# Altium footprint library ftdichip.PCBLIB: 6 footprints
Each footprint in its own frame and in the unit in brackets; x right, y up, seen from the top. Pads: shape width x height; smd on the part's side, far side on the other; paste and mask are expansions set on the pad; w line width, h text height; cw(c..) or ccw(c..) is an arc to the next point about the centre after c.
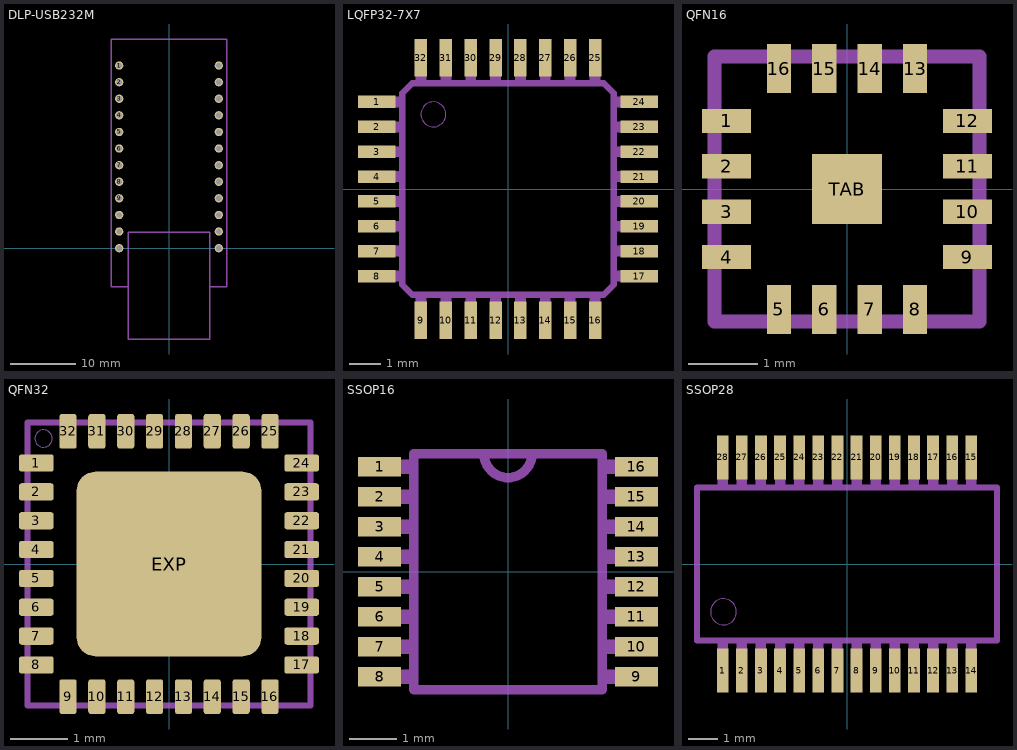
[diagram p0: the footprints below, top view; thin cyan lines are the x and y axes]

## DLP-USB232M [mil]
pads (24):
  round 50 hole 31.5: 1(-300,1100) 2(-300,1000) 3(-300,900) 4(-300,800) 5(-300,700) 6(-300,600) 7(-300,500) 8(-300,400) 9(-300,300) 10(-300,200) 11(-300,100) 12(-300,0) 13(300,0) 14(300,100) 15(300,200) 16(300,300) 17(300,400) 18(300,500) 19(300,600) 20(300,700) 21(300,800) 22(300,900) 23(300,1000) 24(300,1100)
Mechanical 2:
  lines w8: -246.06,-232.28 -346.46,-232.28 -346.46,1259.84 346.46,1259.84 346.46,-232.28 246.06,-232.28 ; -246.06,-232.28 -246.06,94.49 246.06,94.49 246.06,-232.28 ; -246.06,-232.28 -246.06,-547.24 246.06,-547.24 246.06,-232.28

## LQFP32-7X7 [mm]
pads (32):
  rect 1.2x0.4 smd: 1(-4.225,2.8) 2(-4.225,2) 3(-4.225,1.2) 4(-4.225,0.4) 5(-4.225,-0.4) 6(-4.225,-1.2) 7(-4.225,-2) 8(-4.225,-2.8) 17(4.225,-2.8) 18(4.225,-2) 19(4.225,-1.2) 20(4.225,-0.4) 21(4.225,0.4) 22(4.225,1.2) 23(4.225,2) 24(4.225,2.8)
  rect 0.4x1.2 smd: 9(-2.8,-4.225) 10(-2,-4.225) 11(-1.2,-4.225) 12(-0.4,-4.225) 13(0.4,-4.225) 14(1.2,-4.225) 15(2,-4.225) 16(2.8,-4.225) 25(2.8,4.225) 26(2,4.225) 27(1.2,4.225) 28(0.4,4.225) 29(-0.4,4.225) 30(-1.2,4.225) 31(-2,4.225) 32(-2.8,4.225)
Mechanical 2:
  lines w0.203: -3.4,-3.083 -3.083,-3.4 3.083,-3.4 3.4,-3.083 3.4,3.083 3.083,3.4 -3.083,3.4 -3.4,3.083 -3.4,-3.083
Mechanical 18:
  circle w0: c-2.4,2.4 r0.4
  rectangle: -4.5,2.625 -3.475,2.975
  rectangle: -4.5,1.825 -3.475,2.175
  rectangle: -4.5,1.025 -3.475,1.375
  rectangle: -4.5,0.225 -3.475,0.575
  rectangle: -4.5,-0.575 -3.475,-0.225
  rectangle: -4.5,-1.375 -3.475,-1.025
  rectangle: -4.5,-2.175 -3.475,-1.825
  rectangle: -4.5,-2.975 -3.475,-2.625
  region: -2.625,-4.5 -2.625,-3.475 -2.975,-3.475 -2.975,-4.5
  region: -1.825,-4.5 -1.825,-3.475 -2.175,-3.475 -2.175,-4.5
  region: -1.025,-4.5 -1.025,-3.475 -1.375,-3.475 -1.375,-4.5
  region: -0.225,-4.5 -0.225,-3.475 -0.575,-3.475 -0.575,-4.5
  region: 0.575,-4.5 0.575,-3.475 0.225,-3.475 0.225,-4.5
  region: 1.375,-4.5 1.375,-3.475 1.025,-3.475 1.025,-4.5
  region: 2.175,-4.5 2.175,-3.475 1.825,-3.475 1.825,-4.5
  region: 2.975,-4.5 2.975,-3.475 2.625,-3.475 2.625,-4.5
  region: 4.5,-2.625 3.475,-2.625 3.475,-2.975 4.5,-2.975
  region: 4.5,-1.825 3.475,-1.825 3.475,-2.175 4.5,-2.175
  region: 4.5,-1.025 3.475,-1.025 3.475,-1.375 4.5,-1.375
  region: 4.5,-0.225 3.475,-0.225 3.475,-0.575 4.5,-0.575
  region: 4.5,0.575 3.475,0.575 3.475,0.225 4.5,0.225
  region: 4.5,1.375 3.475,1.375 3.475,1.025 4.5,1.025
  region: 4.5,2.175 3.475,2.175 3.475,1.825 4.5,1.825
  region: 4.5,2.975 3.475,2.975 3.475,2.625 4.5,2.625
  region: 2.625,4.5 2.625,3.475 2.975,3.475 2.975,4.5
  region: 1.825,4.5 1.825,3.475 2.175,3.475 2.175,4.5
  region: 1.025,4.5 1.025,3.475 1.375,3.475 1.375,4.5
  region: 0.225,4.5 0.225,3.475 0.575,3.475 0.575,4.5
  region: -0.575,4.5 -0.575,3.475 -0.225,3.475 -0.225,4.5
  region: -1.375,4.5 -1.375,3.475 -1.025,3.475 -1.025,4.5
  region: -2.175,4.5 -2.175,3.475 -1.825,3.475 -1.825,4.5
  region: -2.975,4.5 -2.975,3.475 -2.625,3.475 -2.625,4.5

## QFN16 [mm]
pads (17):
  rect 0.7x0.35 smd mask-0.35: 1(-1.725,0.975) 2(-1.725,0.325) 3(-1.725,-0.325) 4(-1.725,-0.975) 9(1.725,-0.975) 10(1.725,-0.325) 11(1.725,0.325) 12(1.725,0.975)
  rect 0.35x0.7 smd mask-0.35: 5(-0.975,-1.725) 6(-0.325,-1.725) 7(0.325,-1.725) 8(0.975,-1.725) 13(0.975,1.725) 14(0.325,1.725) 15(-0.325,1.725) 16(-0.975,1.725)
  rect 1x1 smd mask-0.5: TAB(0,0)
Top Layer:
  region: 0,0 0.254,0 0.254,0.254 0,0.254
Top Paste:
  region: 0,0 0.254,0 0.254,0.254 0,0.254
Top Solder:
  rectangle: -2.15,0.775 -1.3,1.175
  rectangle: -2.15,0.125 -1.3,0.525
  rectangle: -2.15,-0.525 -1.3,-0.125
  rectangle: -2.15,-1.175 -1.3,-0.775
  region: -0.775,-2.15 -0.775,-1.3 -1.175,-1.3 -1.175,-2.15
  region: -0.125,-2.15 -0.125,-1.3 -0.525,-1.3 -0.525,-2.15
  region: 0.525,-2.15 0.525,-1.3 0.125,-1.3 0.125,-2.15
  region: 1.175,-2.15 1.175,-1.3 0.775,-1.3 0.775,-2.15
  region: 2.15,-0.775 1.3,-0.775 1.3,-1.175 2.15,-1.175
  region: 2.15,-0.125 1.3,-0.125 1.3,-0.525 2.15,-0.525
  region: 2.15,0.525 1.3,0.525 1.3,0.125 2.15,0.125
  region: 2.15,1.175 1.3,1.175 1.3,0.775 2.15,0.775
  region: 0.775,2.15 0.775,1.3 1.175,1.3 1.175,2.15
  region: 0.125,2.15 0.125,1.3 0.525,1.3 0.525,2.15
  region: -0.525,2.15 -0.525,1.3 -0.125,1.3 -0.125,2.15
  region: -1.175,2.15 -1.175,1.3 -0.775,1.3 -0.775,2.15
  region: 0,0 0.254,0 0.254,0.254 0,0.254
Mechanical 2:
  lines w0.203: -1.9,-1.9 -1.9,1.9 1.9,1.9 1.9,-1.9 -1.9,-1.9

## QFN32 [mm]
pads (33):
  rrect30% 0.6x0.3 smd paste-0.3 mask-0.3: 1(-2.3,1.75) 2(-2.3,1.25) 3(-2.3,0.75) 4(-2.3,0.25) 5(-2.3,-0.25) 6(-2.3,-0.75) 7(-2.3,-1.25) 8(-2.3,-1.75) 17(2.3,-1.75) 18(2.3,-1.25) 19(2.3,-0.75) 20(2.3,-0.25) 21(2.3,0.25) 22(2.3,0.75) 23(2.3,1.25) 24(2.3,1.75)
  rrect30% 0.3x0.6 smd paste-0.3 mask-0.3: 9(-1.75,-2.3) 10(-1.25,-2.3) 11(-0.75,-2.3) 12(-0.25,-2.3) 13(0.25,-2.3) 14(0.75,-2.3) 15(1.25,-2.3) 16(1.75,-2.3) 25(1.75,2.3) 26(1.25,2.3) 27(0.75,2.3) 28(0.25,2.3) 29(-0.25,2.3) 30(-0.75,2.3) 31(-1.25,2.3) 32(-1.75,2.3)
  rrect20% 3.2x3.2 smd paste-1.6 mask-1.6: EXP(0,0)
Top Paste:
  rectangle: -0.3,1.1 0.3,1.4
  rectangle: -0.3,0.6 0.3,0.9
  rectangle: -0.3,0.1 0.3,0.4
  rectangle: -0.3,-0.4 0.3,-0.1
  rectangle: -0.3,-0.9 0.3,-0.6
  rectangle: -0.3,-1.4 0.3,-1.1
  rectangle: -1.3,1.1 -0.7,1.4
  rectangle: -1.3,0.6 -0.7,0.9
  rectangle: -1.3,0.1 -0.7,0.4
  rectangle: -1.3,-0.4 -0.7,-0.1
  rectangle: -1.3,-0.9 -0.7,-0.6
  rectangle: -1.3,-1.4 -0.7,-1.1
  rectangle: 0.7,1.1 1.3,1.4
  rectangle: 0.7,0.6 1.3,0.9
  rectangle: 0.7,0.1 1.3,0.4
  rectangle: 0.7,-0.4 1.3,-0.1
  rectangle: 0.7,-0.9 1.3,-0.6
  rectangle: 0.7,-1.4 1.3,-1.1
  region: 0,0 0.254,0 0.254,0.254 0,0.254
  region: 0,0 0.254,0 0.254,0.254 0,0.254
  region: 0,0 0.254,0 0.254,0.254 0,0.254
  region: 0,0 0.254,0 0.254,0.254 0,0.254
  region: 0,0 0.254,0 0.254,0.254 0,0.254
  region: 0,0 0.254,0 0.254,0.254 0,0.254
  region: 0,0 0.254,0 0.254,0.254 0,0.254
  region: 0,0 0.254,0 0.254,0.254 0,0.254
  region: 0,0 0.254,0 0.254,0.254 0,0.254
  region: 0,0 0.254,0 0.254,0.254 0,0.254
  region: 0,0 0.254,0 0.254,0.254 0,0.254
  region: 0,0 0.254,0 0.254,0.254 0,0.254
  region: 0,0 0.254,0 0.254,0.254 0,0.254
  region: 0,0 0.254,0 0.254,0.254 0,0.254
  region: 0,0 0.254,0 0.254,0.254 0,0.254
  region: 0,0 0.254,0 0.254,0.254 0,0.254
  region: 0,0 0.254,0 0.254,0.254 0,0.254
  region: 0,0 0.254,0 0.254,0.254 0,0.254
  region: 0,0 0.254,0 0.254,0.254 0,0.254
  region: 0,0 0.254,0 0.254,0.254 0,0.254
  region: 0,0 0.254,0 0.254,0.254 0,0.254
  region: 0,0 0.254,0 0.254,0.254 0,0.254
  region: 0,0 0.254,0 0.254,0.254 0,0.254
  region: 0,0 0.254,0 0.254,0.254 0,0.254
  region: 0,0 0.254,0 0.254,0.254 0,0.254
  region: 0,0 0.254,0 0.254,0.254 0,0.254
  region: 0,0 0.254,0 0.254,0.254 0,0.254
  region: 0,0 0.254,0 0.254,0.254 0,0.254
  region: 0,0 0.254,0 0.254,0.254 0,0.254
  region: 0,0 0.254,0 0.254,0.254 0,0.254
  region: 0,0 0.254,0 0.254,0.254 0,0.254
  region: 0,0 0.254,0 0.254,0.254 0,0.254
Top Solder:
  region: 0,0 0.254,0 0.254,0.254 0,0.254
  region: 0,0 0.254,0 0.254,0.254 0,0.254
  region: 0,0 0.254,0 0.254,0.254 0,0.254
  region: 0,0 0.254,0 0.254,0.254 0,0.254
  region: 0,0 0.254,0 0.254,0.254 0,0.254
  region: 0,0 0.254,0 0.254,0.254 0,0.254
  region: 0,0 0.254,0 0.254,0.254 0,0.254
  region: 0,0 0.254,0 0.254,0.254 0,0.254
  region: 0,0 0.254,0 0.254,0.254 0,0.254
  region: 0,0 0.254,0 0.254,0.254 0,0.254
  region: 0,0 0.254,0 0.254,0.254 0,0.254
  region: 0,0 0.254,0 0.254,0.254 0,0.254
  region: 0,0 0.254,0 0.254,0.254 0,0.254
  region: 0,0 0.254,0 0.254,0.254 0,0.254
  region: 0,0 0.254,0 0.254,0.254 0,0.254
  region: 0,0 0.254,0 0.254,0.254 0,0.254
  region: 0,0 0.254,0 0.254,0.254 0,0.254
  region: 0,0 0.254,0 0.254,0.254 0,0.254
  region: 0,0 0.254,0 0.254,0.254 0,0.254
  region: 0,0 0.254,0 0.254,0.254 0,0.254
  region: 0,0 0.254,0 0.254,0.254 0,0.254
  region: 0,0 0.254,0 0.254,0.254 0,0.254
  region: 0,0 0.254,0 0.254,0.254 0,0.254
  region: 0,0 0.254,0 0.254,0.254 0,0.254
  region: 0,0 0.254,0 0.254,0.254 0,0.254
  region: 0,0 0.254,0 0.254,0.254 0,0.254
  region: 0,0 0.254,0 0.254,0.254 0,0.254
  region: 0,0 0.254,0 0.254,0.254 0,0.254
  region: 0,0 0.254,0 0.254,0.254 0,0.254
  region: 0,0 0.254,0 0.254,0.254 0,0.254
  region: 0,0 0.254,0 0.254,0.254 0,0.254
  region: 0,0 0.254,0 0.254,0.254 0,0.254
  region: 0,0 0.254,0 0.254,0.254 0,0.254
Mechanical 2:
  circle w0: c-2.175,2.175 r0.15
  lines w0.102: -2.45,-2.05 -2.45,-2.45 -2.05,-2.45 ; -2.45,2.05 -2.45,2.45 -2.05,2.45 ; 2.05,-2.45 2.45,-2.45 2.45,-2.05 ; 2.05,2.45 2.45,2.45 2.45,2.05
Mechanical 18:
  lines w0.102: -2.45,-2.45 2.45,-2.45 2.45,2.45 -2.45,2.45 -2.45,-2.45

## SSOP16 [mil]
pads (16):
  rect 36x16 smd: 1(-107,87.5) 2(-107,62.5) 3(-107,37.5) 4(-107,12.5) 5(-107,-12.5) 6(-107,-37.5) 7(-107,-62.5) 8(-107,-87.5) 9(107,-87.5) 10(107,-62.5) 11(107,-37.5) 12(107,-12.5) 13(107,12.5) 14(107,37.5) 15(107,62.5) 16(107,87.5)
Mechanical 2:
  lines w8: -20,98.4 ccw(c0,98.4) 20,98.4 ; -78.4,-98.4 78.4,-98.4 78.4,98.4 -78.4,98.4 -78.4,-98.4
Mechanical 18:
  rectangle: -122,81.5 -78.5,93.5
  rectangle: -122,56.5 -78.5,68.5
  rectangle: -122,31.5 -78.5,43.5
  rectangle: -122,6.5 -78.5,18.5
  rectangle: -122,-18.5 -78.5,-6.5
  rectangle: -122,-43.5 -78.5,-31.5
  rectangle: -122,-68.5 -78.5,-56.5
  rectangle: -122,-93.5 -78.5,-81.5
  rectangle: 78.5,-93.5 122,-81.5
  rectangle: 78.5,-68.5 122,-56.5
  rectangle: 78.5,-43.5 122,-31.5
  rectangle: 78.5,-18.5 122,-6.5
  rectangle: 78.5,6.5 122,18.5
  rectangle: 78.5,31.5 122,43.5
  rectangle: 78.5,56.5 122,68.5
  rectangle: 78.5,81.5 122,93.5

## SSOP28 [mm]
pads (28):
  rect 0.4x1.5 smd: 1(-4.225,-3.625) 2(-3.575,-3.625) 3(-2.925,-3.625) 4(-2.275,-3.625) 5(-1.625,-3.625) 6(-0.975,-3.625) 7(-0.325,-3.625) 8(0.325,-3.625) 9(0.975,-3.625) 10(1.625,-3.625) 11(2.275,-3.625) 12(2.925,-3.625) 13(3.575,-3.625) 14(4.225,-3.625) 15(4.225,3.625) 16(3.575,3.625) 17(2.925,3.625) 18(2.275,3.625) 19(1.625,3.625) 20(0.975,3.625) 21(0.325,3.625) 22(-0.325,3.625) 23(-0.975,3.625) 24(-1.625,3.625) 25(-2.275,3.625) 26(-2.925,3.625) 27(-3.575,3.625) 28(-4.225,3.625)
Mechanical 2:
  circle w0: c-4.2,-1.625 r0.442
  lines w0.203: -5.1,-2.6 5.1,-2.6 5.1,2.6 -5.1,2.6 -5.1,-2.6
Mechanical 18:
  rectangle: -4.403,-3.937 -4.047,-2.642
  rectangle: -3.753,-3.937 -3.397,-2.642
  rectangle: -3.103,-3.937 -2.747,-2.642
  rectangle: -2.453,-3.937 -2.097,-2.642
  rectangle: -1.803,-3.937 -1.447,-2.642
  rectangle: -1.153,-3.937 -0.797,-2.642
  rectangle: -0.503,-3.937 -0.147,-2.642
  rectangle: 0.147,-3.937 0.503,-2.642
  rectangle: 0.797,-3.937 1.153,-2.642
  rectangle: 1.447,-3.937 1.803,-2.642
  rectangle: 2.097,-3.937 2.453,-2.642
  rectangle: 2.747,-3.937 3.103,-2.642
  rectangle: 3.397,-3.937 3.753,-2.642
  rectangle: 4.047,-3.937 4.403,-2.642
  rectangle: 4.047,2.642 4.403,3.937
  rectangle: 3.397,2.642 3.753,3.937
  rectangle: 2.747,2.642 3.103,3.937
  rectangle: 2.097,2.642 2.453,3.937
  rectangle: 1.447,2.642 1.803,3.937
  rectangle: 0.797,2.642 1.153,3.937
  rectangle: 0.147,2.642 0.503,3.937
  rectangle: -0.503,2.642 -0.147,3.937
  rectangle: -1.153,2.642 -0.797,3.937
  rectangle: -1.803,2.642 -1.447,3.937
  rectangle: -2.453,2.642 -2.097,3.937
  rectangle: -3.103,2.642 -2.747,3.937
  rectangle: -3.753,2.642 -3.397,3.937
  rectangle: -4.403,2.642 -4.047,3.937